# EAGLE library part LM3886 (library ioshub)
LM3886 Power Amp
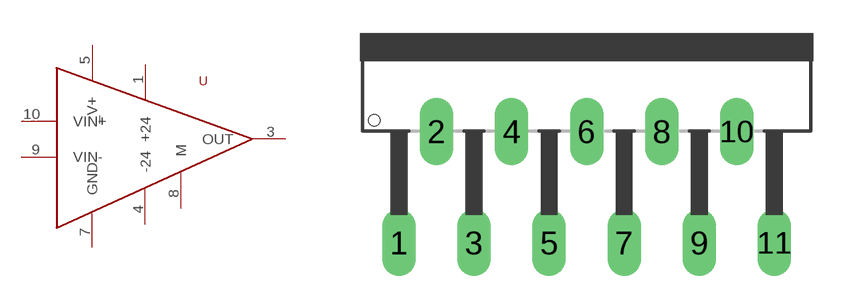
[diagram p11: symbol with the pads of TF11B; footprint TF11B]

Designator prefix -

## LM3886  [TF11B]
1  +24
3  OUT
4  -24
5  _V+
7  GND
8  M
9  VIN-
10  VIN+

## Footprint TF11B (pad centres in mm)
drill 1.016 long: 1 -8.509,-6.985; 2 -6.807,-1.93; 3 -5.105,-6.985; 4 -3.404,-1.93; 5 -1.702,-6.985; 6 0,-1.93; 7 1.702,-6.985; 8 3.404,-1.93; 9 5.105,-6.985; 10 6.807,-1.93; 11 8.509,-6.985